# EAGLE library part DIN41612-F48-90° (library Traficon)
Harting 09-06-248-7836 or 09-06-248-6836
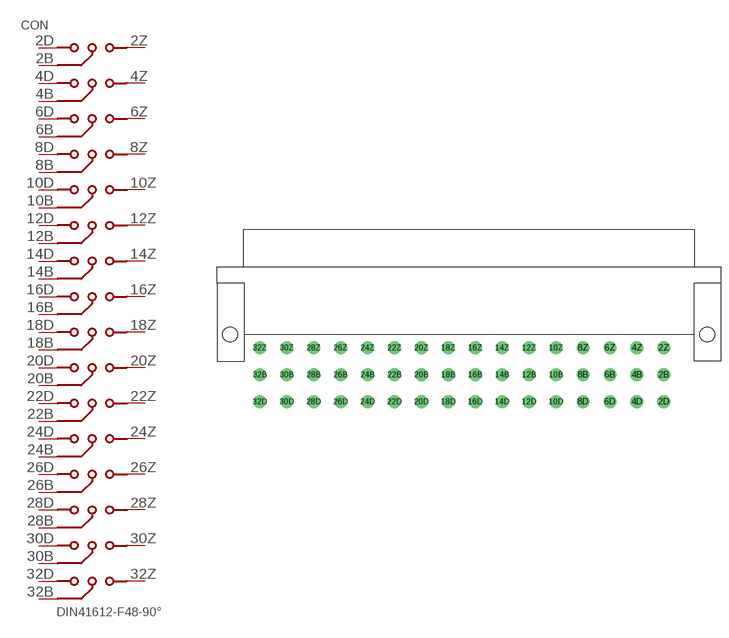
[diagram p113: symbol with the pads of DIN41612-F48-FEMALE-90°; footprint DIN41612-F48-FEMALE-90°]

Designator prefix CON

## DIN41612-F48-90°  [DIN41612-F48-FEMALE-90°]
2B  2B
2D  2D
2Z  2Z
4B  4B
4D  4D
4Z  4Z
6B  6B
6D  6D
6Z  6Z
8B  8B
8D  8D
8Z  8Z
10B  10B
10D  10D
10Z  10Z
12B  12B
12D  12D
12Z  12Z
14B  14B
14D  14D
14Z  14Z
16B  16B
16D  16D
16Z  16Z
18B  18B
18D  18D
18Z  18Z
20B  20B
20D  20D
20Z  20Z
22B  22B
22D  22D
22Z  22Z
24B  24B
24D  24D
24Z  24Z
26B  26B
26D  26D
26Z  26Z
28B  28B
28D  28D
28Z  28Z
30B  30B
30D  30D
30Z  30Z
32B  32B
32D  32D
32Z  32Z

## Footprint DIN41612-F48-FEMALE-90° (pad centres in mm)
drill 1.6 round: 2B 36.83,-11.43; 2D 36.83,-16.51; 2Z 36.83,-6.35; 4B 31.75,-11.43; 4D 31.75,-16.51; 4Z 31.75,-6.35; 6B 26.67,-11.43; 6D 26.67,-16.51; 6Z 26.67,-6.35; 8B 21.59,-11.43; 8D 21.59,-16.51; 8Z 21.59,-6.35; 10B 16.51,-11.43; 10D 16.51,-16.51; 10Z 16.51,-6.35; 12B 11.43,-11.43; 12D 11.43,-16.51; 12Z 11.43,-6.35; 14B 6.35,-11.43; 14D 6.35,-16.51; 14Z 6.35,-6.35; 16B 1.27,-11.43; 16D 1.27,-16.51; 16Z 1.27,-6.35; 18B -3.81,-11.43; 18D -3.81,-16.51; 18Z -3.81,-6.35; 20B -8.89,-11.43; 20D -8.89,-16.51; 20Z -8.89,-6.35; 22B -13.97,-11.43; 22D -13.97,-16.51; 22Z -13.97,-6.35; 24B -19.05,-11.43; 24D -19.05,-16.51; 24Z -19.05,-6.35; 26B -24.13,-11.43; 26D -24.13,-16.51; 26Z -24.13,-6.35; 28B -29.21,-11.43; 28D -29.21,-16.51; 28Z -29.21,-6.35; 30B -34.29,-11.43; 30D -34.29,-16.51; 30Z -34.29,-6.35; 32B -39.37,-11.43; 32D -39.37,-16.51; 32Z -39.37,-6.35
hole 2.8 at -45,-3.85
hole 2.8 at 45,-3.85